# Altium schematic symbol library 662004013322.SchLib: 1 symbol
Pins are listed as number, name and electrical type; pins without a type are passive.

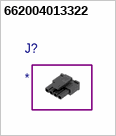
[diagram p0: symbol 662004013322]

## 662004013322
designator J?